# Altium integrated library Maxim Power Mgt Supervisory Circuit.IntLib: 756 symbols (part 16 of 16)
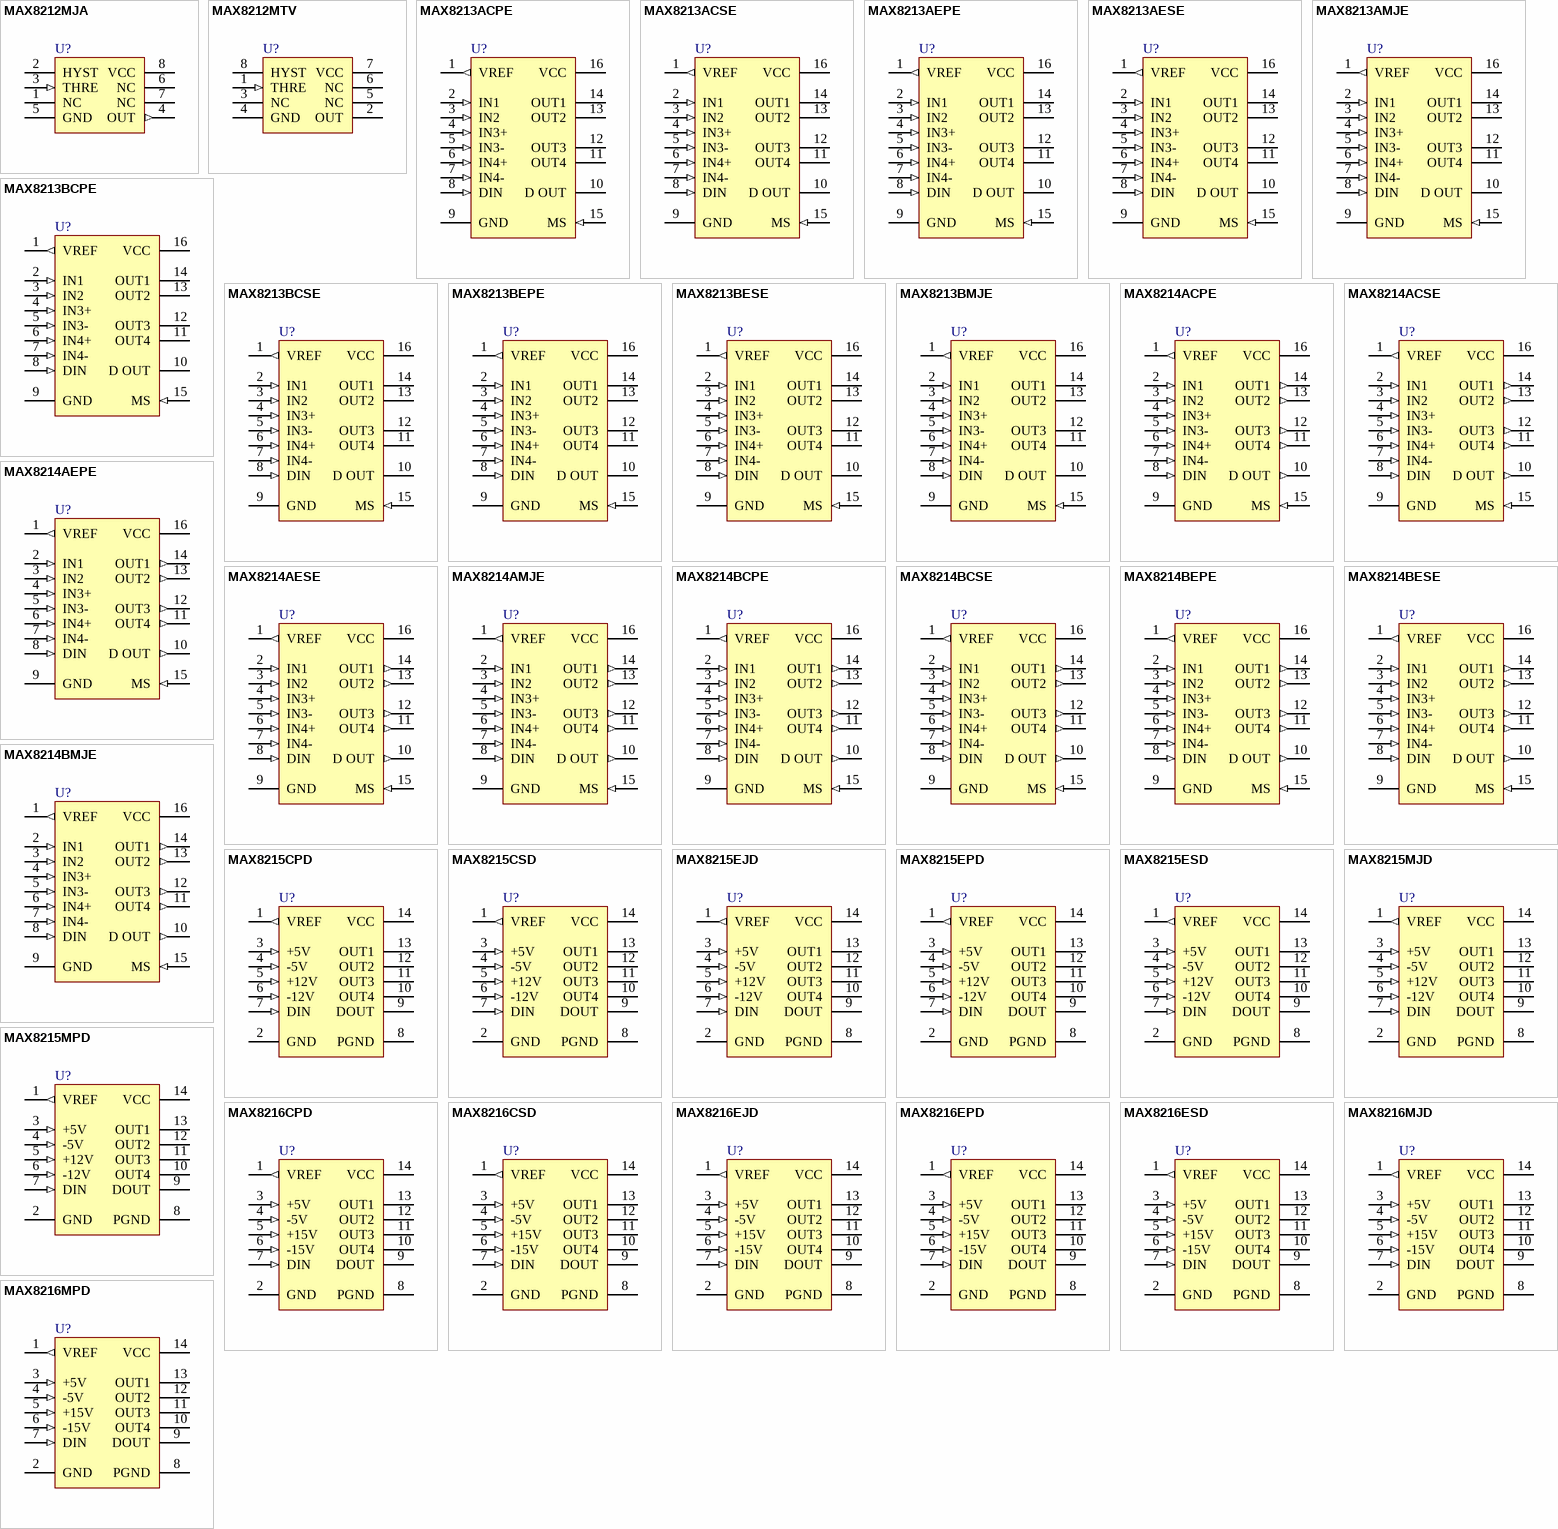
[diagram p33: symbols MAX8212MJA to MAX8216MPD]

## MAX8216MPD
designator U?
±15V Dedicated Microprocessor Voltage Monitor; Published: 16-Jan-2001; LatestRevisionDate: 29-May-2009; LatestRevisionNote: Component Body Added.; DatasheetVersion: Aug-1993; PackageVersion: RevB, 21-0043; PackageReference: PD14; Publisher: Altium Limited; PackageDescription: DIP, 14-Pin, Row Spacing 7.62 mm, Pitch 2.54 mm; Code_JEDEC: MS-001-AC; ComponentLink1Description: Manufacturer Link; ComponentLink1URL: http://www.maxim-ic.com/; ComponentLink2Description: Datasheet; ComponentLink2URL: http://pdfserv.maxim-ic.com/en/ds/MAX8215-MAX8216.pdf
footprint PD14 (DIP, 14-Leads, Row Spacing 7.62mm, Pitch 2.54mm, Body 19.05x7.24mm)
3D model PD14 (DIP, 14-Pin, Row Spacing 7.62 mm, Pitch 2.54 mm)
pins: 1 VREF (out), 2 GND (power), 3 +5V (in), 4 -5V (in), 5 +15V (in), 6 -15V (in), 7 DIN (in), 8 PGND (power), 9 DOUT (oc), 10 OUT4 (oc), 11 OUT3 (oc), 12 OUT2 (oc), 13 OUT1 (oc), 14 VCC (power)